# EAGLE library part ZHB6718 (library IC)
Zetex ZHB6718 2.5A 20V SM-8 bipolar transistor H-Bridge
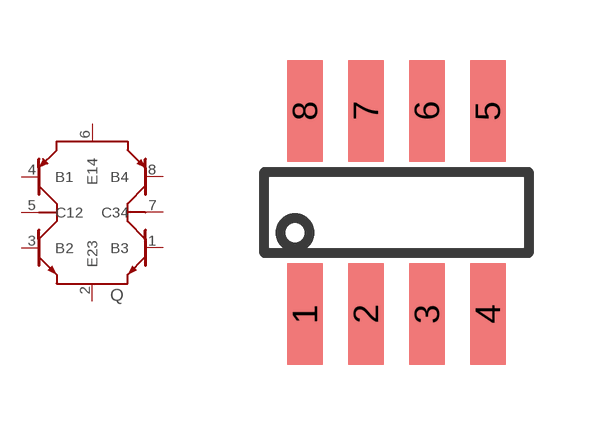
[diagram p60: symbol with the pads of SOT223-8; footprint SOT223-8]

Designator prefix Q

## ZHB6718  [SOT223-8]
1  B3
2  E23
3  B2
4  B1
5  C12
6  E14
7  C34
8  B4

## Footprint SOT223-8 (pad centres in mm)
smd 0.889 x 2.54: 1 -2.286,-2.54; 2 -0.762,-2.54; 3 0.762,-2.54; 4 2.286,-2.54; 5 2.286,2.54; 6 0.762,2.54; 7 -0.762,2.54; 8 -2.286,2.54